# Altium schematic symbol library BIEN AP 5V-700ma.SchLib: 1 symbol
Pins are listed as number, name and electrical type; pins without a type are passive.

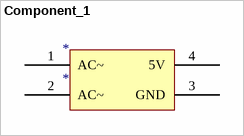
[diagram p0: symbol Component_1]

## Component_1
designator *
footprint bien ap 5V-700ma
pins: 1 AC~, 2 AC~, 3 GND, 4 5V